# Altium footprint library PcbLib.PcbLib: 10 footprints
Each footprint in its own frame and in the unit in brackets; x right, y up, seen from the top. Pads: shape width x height; smd on the part's side, far side on the other; paste and mask are expansions set on the pad; w line width, h text height; cw(c..) or ccw(c..) is an arc to the next point about the centre after c.
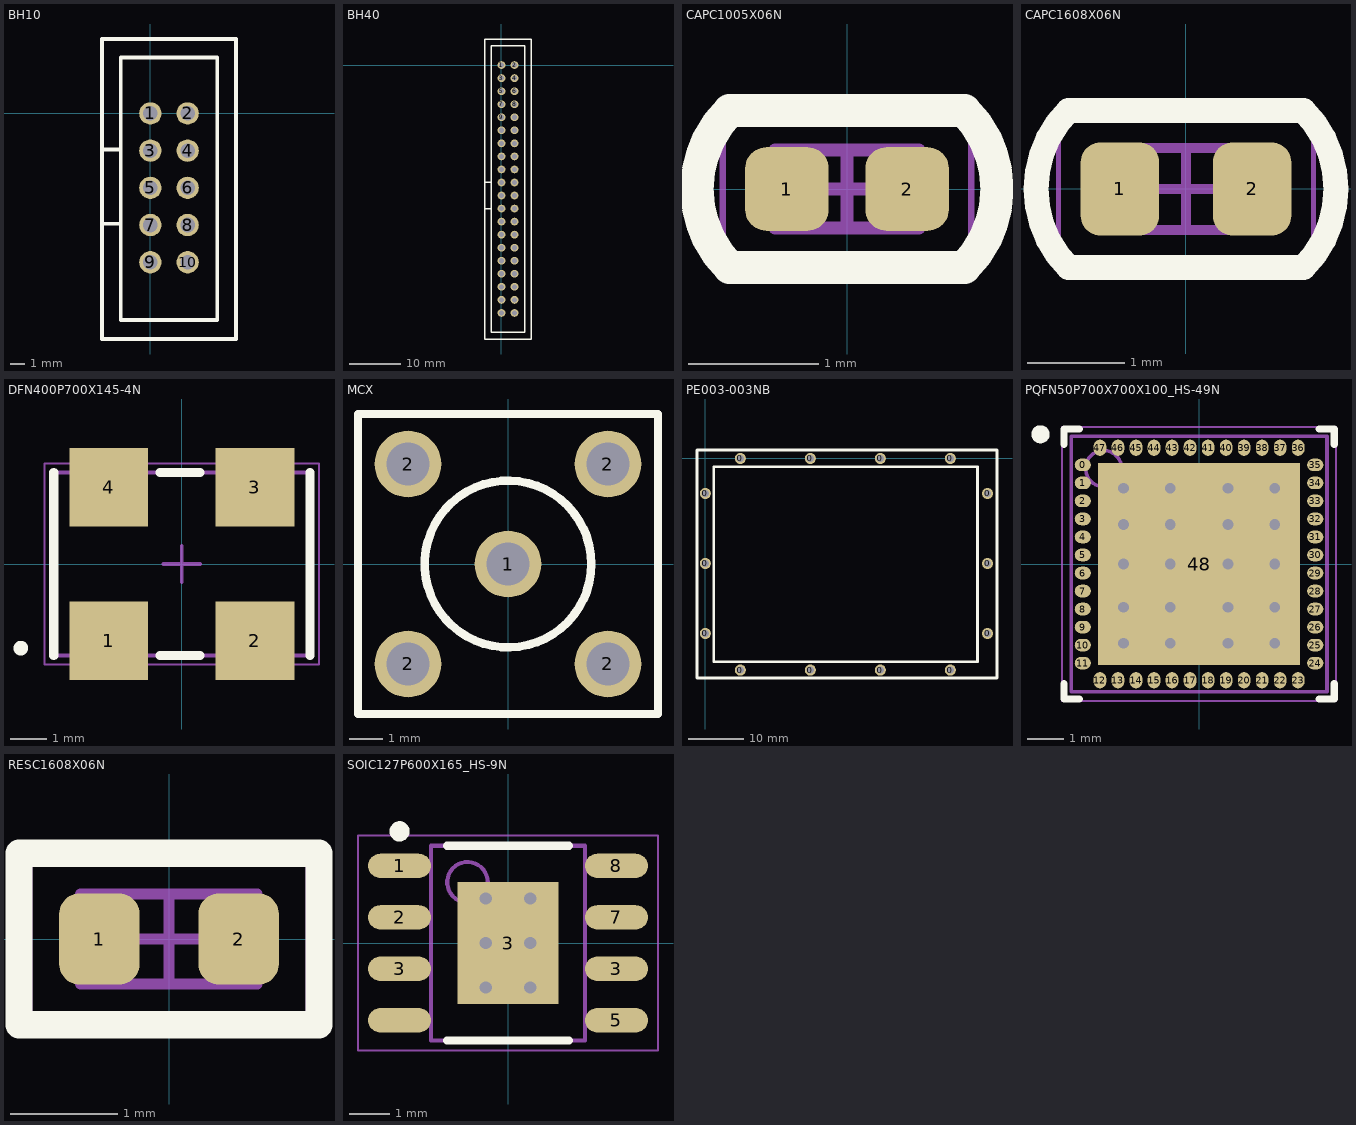
[diagram p0: the footprints below, top view; thin cyan lines are the x and y axes]

## BH10 [mil]
pads (10):
  round 60 hole 39.37: 1(0,0) 2(100,0) 3(0,-100) 4(100,-100) 5(0,-200) 6(100,-200) 7(0,-300) 8(100,-300) 9(0,-400) 10(100,-400)
Top Overlay:
  lines w10: -130,-296.85 -80,-296.85 ; -130,-96.85 -80,-96.85 ; -130,-606.22 230,-606.31 230,200 -130,200 -130,-606.22 ; -80,-555.12 180,-555.12 180,150 -80,150 -80,-555.12

## BH40 [mil]
height 354.33
pads (40):
  round 60 hole 39.37: 1(0,0) 2(100,0) 3(0,-100) 4(100,-100) 5(0,-200) 6(100,-200) 7(0,-300) 8(100,-300) 9(0,-400) 10(100,-400) 11(0,-500) 12(100,-500) 13(0,-600) 14(100,-600) 15(0,-700) 16(100,-700) 17(0,-800) 18(100,-800) 19(0,-900) 20(100,-900) 21(0,-1000) 22(100,-1000) 23(0,-1100) 24(100,-1100) 25(0,-1200) 26(100,-1200) 27(0,-1300) 28(100,-1300) 29(0,-1400) 30(100,-1400) 31(0,-1500) 32(100,-1500) 33(0,-1600) 34(100,-1600) 35(0,-1700) 36(100,-1700) 37(0,-1800) 38(100,-1800) 39(0,-1900) 40(100,-1900)
Top Overlay:
  lines w10: -130,-1100 -80,-1100 ; -130,-900 -80,-900 ; -130,-2100 230,-2100 230,200 -130,200 -130,-2100 ; -80,-2050 -80,150 180,150 180,-2050 -80,-2050

## CAPC1005X06N [mm] "Chip Capacitor, 2-Leads, Body 1,00x0,50mm, IPC Medium Density"
height 0.6
pads (2):
  rrect50% 0.64x0.64 smd: 1(-0.46,0) 2(0.46,0)
Top Overlay:
  lines w0.254: -0.9,-0.6 cw(c-0.3,0) -0.9,0.6 0.9,0.6 cw(c0.3,0) 0.9,-0.6 -0.9,-0.6
Mechanical 13:
  lines w0.1: -0.55,-0.3 0.55,-0.3 0.55,0.3 -0.55,0.3 -0.55,-0.3
Mechanical 15:
  lines w0.05: -0.95,-0.5 0.95,-0.5 0.95,0.5 -0.95,0.5 -0.95,-0.5
  lines w0.1: -0.3,0 0.3,0 ; 0,-0.3 0,0.3
3D body: height 0.6, standoff 0, extent 0.35,-0.3 0.55,0.3
3D body: height 0.6, standoff 0, extent -0.55,-0.3 -0.35,0.3
3D body: height 0.6, standoff 0, extent -0.35,-0.3 0.35,0.3

## CAPC1608X06N [mm] "Chip Capacitor, 2-Leads, Body 1,60x0,81mm, IPC Medium Density"
height 0.6
pads (2):
  rrect50% 0.8x0.95 smd: 1(-0.675,0) 2(0.675,0)
Top Overlay:
  lines w0.254: -1.2,-0.8 cw(c-0.4,0) -1.2,0.8 1.2,0.8 cw(c0.4,0) 1.2,-0.8 -1.2,-0.8
Mechanical 13:
  lines w0.1: -0.825,-0.42 0.825,-0.42 0.825,0.42 -0.825,0.42 -0.825,-0.42
Mechanical 15:
  lines w0.05: -1.3,-0.75 1.3,-0.75 1.3,0.75 -1.3,0.75 -1.3,-0.75
  lines w0.1: -0.42,0 0.42,0 ; 0,-0.42 0,0.42
3D body: height 0.6, standoff 0, extent 0.475,-0.42 0.825,0.42
3D body: height 0.6, standoff 0, extent -0.825,-0.42 -0.475,0.42
3D body: height 0.6, standoff 0, extent -0.475,-0.42 0.475,0.42

## DFN400P700X145-4N [mm] "DFN, 4-Leads, Body 5,00x7,00mm, Pitch 4,00mm, IPC Medium Density"
height 1.45
pads (4):
  rect 2.15x2.15 smd: 1(-2,-2.1) 2(2,-2.1) 3(2,2.1) 4(-2,2.1)
Top Overlay:
  circle w0.3: c-4.4,-2.3 r0.05
  lines w0.25: -3.5,-2.5 -3.5,2.5 ; -0.6,-2.5 0.5,-2.5 ; -0.6,2.5 0.5,2.5 ; 3.5,-2.5 3.5,2.5
Mechanical 13:
  lines w0.1: -3.5,-2.5 3.5,-2.5 3.5,2.5 -3.5,2.5 -3.5,-2.5
Mechanical 15:
  lines w0.05: -3.75,-2.75 3.75,-2.75 3.75,2.75 -3.75,2.75 -3.75,-2.75
  lines w0.1: -0.5,0 0.5,0 ; 0,-0.5 0,0.5
3D body: height 1.45, standoff 0, extent -3.5,-2.5 3.5,2.5

## MCX [mm]
height 5
pads (5):
  round 2 hole 1.3: 1(0,0) 2(-3,-3) 2(-3,3) 2(3,-3) 2(3,3)
Top Overlay:
  circle w0.254: c0,0 r2.5
  lines w0.25: -4.5,-4.5 4.5,-4.5 4.5,4.5 -4.5,4.5 -4.5,-4.5

## PE003-003NB [mm]
height 7
pads (14):
  round 2 hole 1.3: 0(0,-31.5) 0(0,-18.9) 0(0,-6.3) 0(6.3,-38.1) 0(6.3,0) 0(18.9,-38.1) 0(18.9,0) 0(31.5,-38.1) 0(31.5,0) 0(44.1,-38.1) 0(44.1,0) 0(50.8,-31.5) 0(50.8,-18.9) 0(50.8,-6.3)
Top Overlay:
  lines w0.5: -1.5,-39.5 52.5,-39.5 52.5,1.5 -1.5,1.5 -1.5,-39.5 ; 1.5,-36.6 49,-36.6 49,-1.5 1.5,-1.5 1.5,-36.6

## PQFN50P700X700X100_HS-49N [mm] "PQFN, 48-Leads, Body 7,00x7,00mm, Pitch 0,50mm, Thermal Pad 4,00x5,60mm, IPC Medium Density"
height 1
pads (49):
  oval 0.45x0.35 smd: 0(-3.225,2.75) 1(-3.225,2.25) 2(-3.225,1.75) 3(-3.225,1.25) 4(-3.225,0.75) 5(-3.225,0.25) 6(-3.225,-0.25) 7(-3.225,-0.75) 8(-3.225,-1.25) 9(-3.225,-1.75) 10(-3.225,-2.25) 11(-3.225,-2.75) 24(3.225,-2.75) 25(3.225,-2.25) 26(3.225,-1.75) 27(3.225,-1.25) 28(3.225,-0.75) 29(3.225,-0.25) 30(3.225,0.25) 31(3.225,0.75) 32(3.225,1.25) 33(3.225,1.75) 34(3.225,2.25) 35(3.225,2.75)
  oval 0.35x0.45 smd: 12(-2.75,-3.225) 13(-2.25,-3.225) 14(-1.75,-3.225) 15(-1.25,-3.225) 16(-0.75,-3.225) 17(-0.25,-3.225) 18(0.25,-3.225) 19(0.75,-3.225) 20(1.25,-3.225) 21(1.75,-3.225) 22(2.25,-3.225) 23(2.75,-3.225) 36(2.75,3.225) 37(2.25,3.225) 38(1.75,3.225) 39(1.25,3.225) 40(0.75,3.225) 41(0.25,3.225) 42(-0.25,3.225) 43(-0.75,3.225) 44(-1.25,3.225) 45(-1.75,3.225) 46(-2.25,3.225) 47(-2.75,3.225)
  rect 5.6x5.6 smd: 48(0,0)
via 0.8,2.1 diameter 0.6 hole 0.3
via -0.8,2.1 diameter 0.6 hole 0.3
via -2.1,2.1 diameter 0.6 hole 0.3
via 2.1,2.1 diameter 0.6 hole 0.3
via -2.1,0 diameter 0.6 hole 0.3
via -0.8,0 diameter 0.6 hole 0.3
via 0.8,0 diameter 0.6 hole 0.3
via 2.1,0 diameter 0.6 hole 0.3
via -2.1,1.1 diameter 0.6 hole 0.3
via -0.8,1.1 diameter 0.6 hole 0.3
via 0.8,1.1 diameter 0.6 hole 0.3
via 2.1,1.1 diameter 0.6 hole 0.3
via -2.1,-2.2 diameter 0.6 hole 0.3
via -2.1,-1.2 diameter 0.6 hole 0.3
via -0.8,-2.2 diameter 0.6 hole 0.3
via -0.8,-1.2 diameter 0.6 hole 0.3
via 0.8,-1.2 diameter 0.6 hole 0.3
via 2.1,-1.2 diameter 0.6 hole 0.3
via 2.1,-2.2 diameter 0.6 hole 0.3
via 0.8,-2.2 diameter 0.6 hole 0.3
Top Overlay:
  circle w0.25: c-4.4,3.6 r0.125
  lines w0.2: -3.75,-3.325 -3.75,-3.75 -3.325,-3.75 ; -3.75,3.325 -3.75,3.75 -3.325,3.75 ; 3.325,-3.75 3.75,-3.75 3.75,-3.325 ; 3.325,3.75 3.75,3.75 3.75,3.325
Mechanical 13:
  circle w0.1: c-2.65,2.65 r0.5
  lines w0.1: -3.55,-3.55 -3.55,3.55 3.55,3.55 3.55,-3.55 -3.55,-3.55
Mechanical 15:
  lines w0.05: -3.8,-3.8 -3.8,3.8 3.8,3.8 3.8,-3.8 -3.8,-3.8
  lines w0.1: -0.5,0 0.5,0 ; 0,-0.5 0,0.5
3D body: height 1, standoff 0.02, extent -3.55,-3.55 3.55,3.55

## RESC1608X06N [mm] "Chip Resistor, 2-Leads, Body 1,60x0,81mm, IPC Medium Density"
height 0.6
pads (2):
  rrect50% 0.75x0.85 smd: 1(-0.65,0) 2(0.65,0)
Top Overlay:
  lines w0.254: -1.4,-0.8 -1.4,0.8 1.4,0.8 1.4,-0.8 -1.4,-0.8
Mechanical 13:
  lines w0.1: -0.825,-0.42 0.825,-0.42 0.825,0.42 -0.825,0.42 -0.825,-0.42
Mechanical 15:
  lines w0.05: -1.3,-0.7 1.3,-0.7 1.3,0.7 -1.3,0.7 -1.3,-0.7
  lines w0.1: -0.42,0 0.42,0 ; 0,-0.42 0,0.42
3D body: height 0.6, standoff 0, extent 0.475,-0.42 0.825,0.42
3D body: height 0.6, standoff 0, extent -0.825,-0.42 -0.475,0.42
3D body: height 0.6, standoff 0, extent -0.475,-0.42 0.475,0.42

## SOIC127P600X165_HS-9N [mm] "SOIC, 8-Leads, Body 4,90x3,90mm, Pitch 1,27mm, Thermal Pad 3,00x2,50mm, IPC Medium Density"
height 1.65
pads (9):
  oval 1.55x0.6 smd: 1(-2.675,1.905) 2(-2.675,0.635) 3(-2.675,-0.635) 3(2.675,-0.635) 5(2.675,-1.905) 7(2.675,0.635) 8(2.675,1.905) ""(-2.675,-1.905)
  rect 2.5x3 smd: 3(0,0)
via -0.55,1.1 diameter 0.5 hole 0.3
via 0.55,1.1 diameter 0.5 hole 0.3
via -0.55,0 diameter 0.5 hole 0.3
via 0.55,0 diameter 0.5 hole 0.3
via -0.55,-1.1 diameter 0.5 hole 0.3
via 0.55,-1.1 diameter 0.5 hole 0.3
Top Overlay:
  circle w0.25: c-2.675,2.755 r0.125
  lines w0.2: -1.5,-2.4 1.5,-2.4 ; -1.5,2.4 1.5,2.4
Mechanical 13:
  circle w0.1: c-1,1.5 r0.5
  lines w0.1: -1.9,-2.4 -1.9,2.4 1.9,2.4 1.9,-2.4 -1.9,-2.4
Mechanical 15:
  lines w0.05: -3.7,-2.65 -3.7,2.65 3.7,2.65 3.7,-2.65 -3.7,-2.65
  lines w0.1: -0.5,0 0.5,0 ; 0,-0.5 0,0.5
3D body: height 1.65, standoff 0.1, extent -1.9,-2.4 1.9,2.4